# EAGLE library part ADAU1445YSVZ-3A (library DSPs)
IC SIGMADSP 175MHZ 100TQFP Manufacturer's datasheet <https://www.analog.com/media/en/technical-documentation/data-sheets/ADAU1442_1445_1446.pdf>
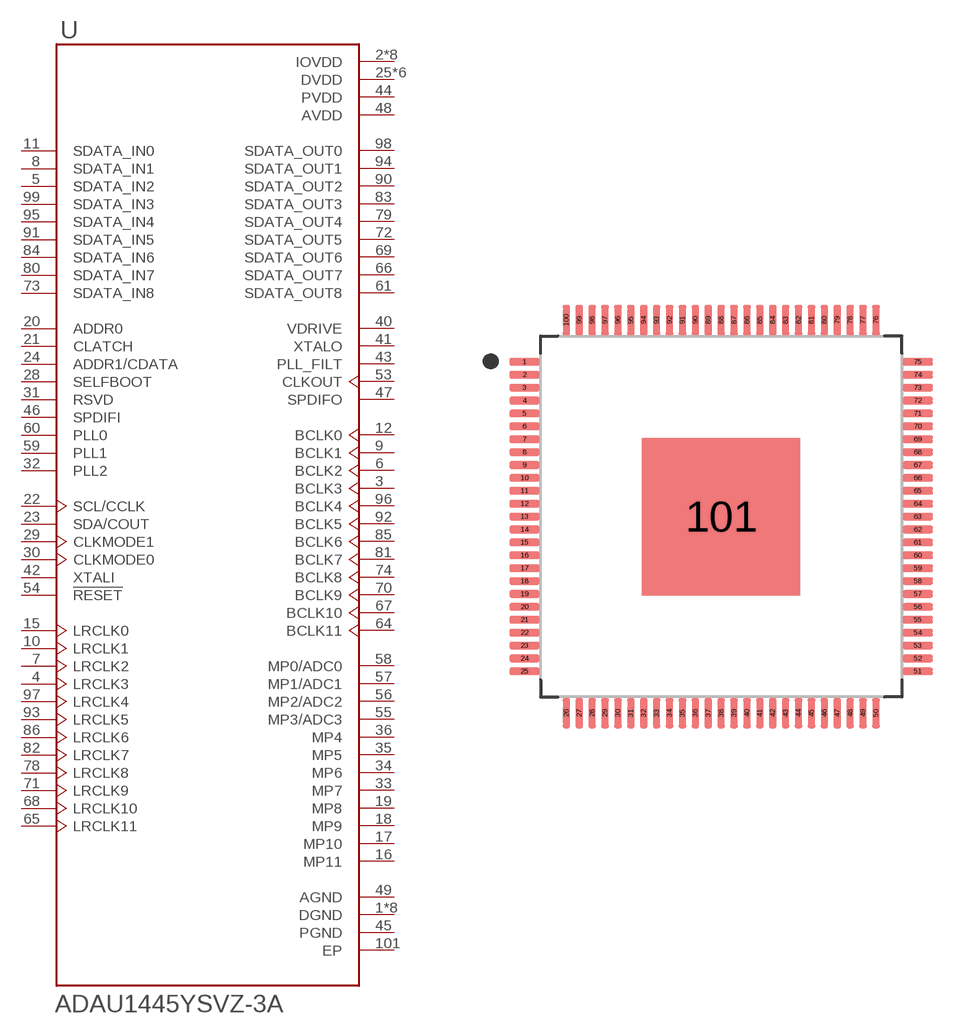
[diagram p5: symbol with the pads of QFP100; footprint QFP100]

Designator prefix U

## ADAU1445YSVZ-3A (CREATED_BY: PCBLayout.com; DIGIKEY_PN: ADAU1445YSVZ-3A-ND; MANUFACTURER: Analog Devices Inc.; MPN: ADAU1445YSVZ-3A; PACKAGE: 100-TQFP)  [QFP100]
1  DGND  pwr
2  IOVDD  pwr
3  BCLK3
4  LRCLK3
5  SDATA_IN2  in
6  BCLK2
7  LRCLK2
8  SDATA_IN1  in
9  BCLK1
10  LRCLK1
11  SDATA_IN0  in
12  BCLK0
13  DGND  pwr
14  IOVDD  pwr
15  LRCLK0
16  MP11
17  MP10
18  MP9
19  MP8
20  ADDR0  in
21  CLATCH  in
22  SCL/CCLK  in
23  SDA/COUT
24  ADDR1/CDATA  in
25  DVDD  pwr
26  DGND  pwr
27  IOVDD  pwr
28  SELFBOOT  in
29  CLKMODE1  in
30  CLKMODE0  in
31  RSVD  in
32  PLL2  in
33  MP7
34  MP6
35  MP5
36  MP4
37  DVDD  pwr
38  DGND  pwr
39  IOVDD  pwr
40  VDRIVE  out
41  XTALO  out
42  XTALI  in
43  PLL_FILT  out
44  PVDD  pwr
45  PGND  pwr
46  SPDIFI  in
47  SPDIFO  out
48  AVDD  pwr
49  AGND  pwr
50  DVDD  pwr
51  DGND  pwr
52  IOVDD  pwr
53  CLKOUT  out
54  !RESET  in
55  MP3/ADC3
56  MP2/ADC2
57  MP1/ADC1
58  MP0/ADC0
59  PLL1  in
60  PLL0  in
61  SDATA_OUT8  out
62  DGND  pwr
63  IOVDD  pwr
64  BCLK11
65  LRCLK11
66  SDATA_OUT7  out
67  BCLK10
68  LRCLK10
69  SDATA_OUT6  out
70  BCLK9
71  LRCLK9
72  SDATA_OUT5  out
73  SDATA_IN8  in
74  BCLK8
75  DVDD  pwr
76  DGND  pwr
77  IOVDD  pwr
78  LRCLK8
79  SDATA_OUT4  out
80  SDATA_IN7  in
81  BCLK7
82  LRCLK7
83  SDATA_OUT3  out
84  SDATA_IN6  in
85  BCLK6
86  LRCLK6
87  DVDD  pwr
88  DGND  pwr
89  IOVDD  pwr
90  SDATA_OUT2  out
91  SDATA_IN5  in
92  BCLK5
93  LRCLK5
94  SDATA_OUT1  out
95  SDATA_IN4  in
96  BCLK4
97  LRCLK4
98  SDATA_OUT0  out
99  SDATA_IN3  in
100  DVDD  pwr
101  EP  pwr

## Footprint QFP100 (pad centres in mm)
Quad Flat Pack (QFP with Tab), 0.50 mm pitch; square, 25 pin X 25 pin, 14.00 mm L X 14.00 mm W X 1.20 mm H body PCB Libraries Packages
smd 1.17 x 0.3: 1 -7.62,6; 2 -7.62,5.5; 3 -7.62,5; 4 -7.62,4.5; 5 -7.62,4; 6 -7.62,3.5; 7 -7.62,3; 8 -7.62,2.5; 9 -7.62,2; 10 -7.62,1.5; 11 -7.62,1; 12 -7.62,0.5; 13 -7.62,0; 14 -7.62,-0.5; 15 -7.62,-1; 16 -7.62,-1.5; 17 -7.62,-2; 18 -7.62,-2.5; 19 -7.62,-3; 20 -7.62,-3.5; 21 -7.62,-4; 22 -7.62,-4.5; 23 -7.62,-5; 24 -7.62,-5.5; 25 -7.62,-6; 51 7.62,-6; 52 7.62,-5.5; 53 7.62,-5; 54 7.62,-4.5; 55 7.62,-4; 56 7.62,-3.5; 57 7.62,-3; 58 7.62,-2.5; 59 7.62,-2; 60 7.62,-1.5; 61 7.62,-1; 62 7.62,-0.5; 63 7.62,0; 64 7.62,0.5; 65 7.62,1; 66 7.62,1.5; 67 7.62,2; 68 7.62,2.5; 69 7.62,3; 70 7.62,3.5; 71 7.62,4; 72 7.62,4.5; 73 7.62,5; 74 7.62,5.5; 75 7.62,6
smd 0.3 x 1.17: 26 -6,-7.62; 27 -5.5,-7.62; 28 -5,-7.62; 29 -4.5,-7.62; 30 -4,-7.62; 31 -3.5,-7.62; 32 -3,-7.62; 33 -2.5,-7.62; 34 -2,-7.62; 35 -1.5,-7.62; 36 -1,-7.62; 37 -0.5,-7.62; 38 0,-7.62; 39 0.5,-7.62; 40 1,-7.62; 41 1.5,-7.62; 42 2,-7.62; 43 2.5,-7.62; 44 3,-7.62; 45 3.5,-7.62; 46 4,-7.62; 47 4.5,-7.62; 48 5,-7.62; 49 5.5,-7.62; 50 6,-7.62; 76 6,7.62; 77 5.5,7.62; 78 5,7.62; 79 4.5,7.62; 80 4,7.62; 81 3.5,7.62; 82 3,7.62; 83 2.5,7.62; 84 2,7.62; 85 1.5,7.62; 86 1,7.62; 87 0.5,7.62; 88 0,7.62; 89 -0.5,7.62; 90 -1,7.62; 91 -1.5,7.62; 92 -2,7.62; 93 -2.5,7.62; 94 -3,7.62; 95 -3.5,7.62; 96 -4,7.62; 97 -4.5,7.62; 98 -5,7.62; 99 -5.5,7.62; 100 -6,7.62
smd 6.1 x 6.1: 101 0,0